# Altium schematic symbol library Switches.SchLib: 2 symbols
Pins are listed as number, name and electrical type; pins without a type are passive.

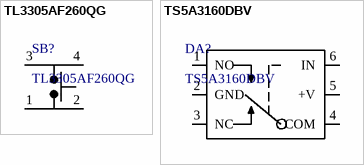
[diagram p0: symbols TL3305AF260QG to TS5A3160DBV]

## TL3305AF260QG
designator SB?
Tactile Switch SPST-NO Top Actuated Surface Mount
footprint TL3305AF260QG
pins: 1, 2, 3, 4

## TS5A3160DBV
designator DA?
Analogue Switch ICs 1Ohm SPDT Ana Sw Sgl-Ch 2:1
footprint SOT-23-6
pins: 1 NO, 2 GND, 3 NC, 4 COM, 5 +V, 6 IN